# EAGLE library part ADC,DIFF,SERIAL (library QuantumOptics)
ADC, differential input, serial out, such as Analog Devies AD7694 16-bit
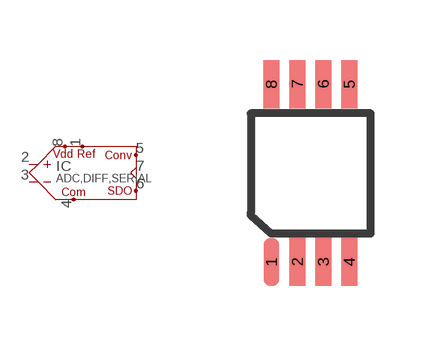
[diagram p171: symbol with the pads of MSOP8; footprint MSOP8]

Designator prefix IC

## ADC,DIFF,SERIAL-MSOP8  [MSOP8]
1  REF
2  IN+  in
3  IN-  in
4  COM
5  CONV  in
6  SDO  out
7  CLK  in
8  VDD

## Footprint MSOP8 (pad centres in mm)
MSOP-8, A.K.A. RM-8. Use 0.025" grid.
smd 0.4 x 1.2: 1 -0.65,-1.905; 2 0,-1.905; 3 0.65,-1.905; 4 1.3,-1.905; 5 1.3,2.54; 6 0.65,2.54; 7 0,2.54; 8 -0.65,2.54